# Altium schematic symbol library PIC18F6722.Schlib: 1 symbol
Pins are listed as number, name and electrical type; pins without a type are passive.

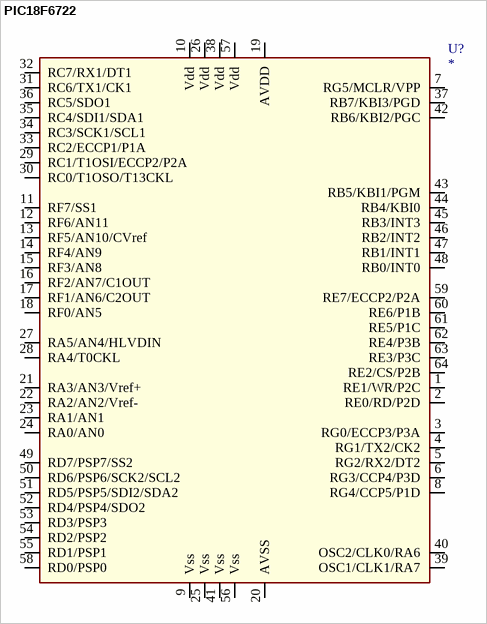
[diagram p0: symbol PIC18F6722]

## PIC18F6722
designator U?
pins: 1 RE1/WR/P2C, 2 RE0/RD/P2D, 3 RG0/ECCP3/P3A, 4 RG1/TX2/CK2, 5 RG2/RX2/DT2, 6 RG3/CCP4/P3D, 7 RG5/MCLR/VPP, 8 RG4/CCP5/P1D, 9 Vss, 10 Vdd, 11 RF7/SS1, 12 RF6/AN11, 13 RF5/AN10/CVref, 14 RF4/AN9, 15 RF3/AN8, 16 RF2/AN7/C1OUT, 17 RF1/AN6/C2OUT, 18 RF0/AN5, 19 AVDD, 20 AVSS, 21 RA3/AN3/Vref+, 22 RA2/AN2/Vref-, 23 RA1/AN1, 24 RA0/AN0, 25 Vss, 26 Vdd, 27 RA5/AN4/HLVDIN, 28 RA4/T0CKL, 29 RC1/T1OSI/ECCP2/P2A, 30 RC0/T1OSO/T13CKL, 31 RC6/TX1/CK1, 32 RC7/RX1/DT1, 33 RC2/ECCP1/P1A, 34 RC3/SCK1/SCL1, 35 RC4/SDI1/SDA1, 36 RC5/SDO1, 37 RB7/KBI3/PGD, 38 Vdd, 39 OSC1/CLK1/RA7, 40 OSC2/CLK0/RA6, 41 Vss, 42 RB6/KBI2/PGC, 43 RB5/KBI1/PGM, 44 RB4/KBI0, 45 RB3/INT3, 46 RB2/INT2, 47 RB1/INT1, 48 RB0/INT0, 49 RD7/PSP7/SS2, 50 RD6/PSP6/SCK2/SCL2, 51 RD5/PSP5/SDI2/SDA2, 52 RD4/PSP4/SDO2, 53 RD3/PSP3, 54 RD2/PSP2, 55 RD1/PSP1, 56 Vss, 57 Vdd, 58 RD0/PSP0, 59 RE7/ECCP2/P2A, 60 RE6/P1B, 61 RE5/P1C, 62 RE4/P3B, 63 RE3/P3C, 64 RE2/CS/P2B